# Altium schematic symbol library LT3436.SchLib: 1 symbol
Pins are listed as number, name and electrical type; pins without a type are passive.

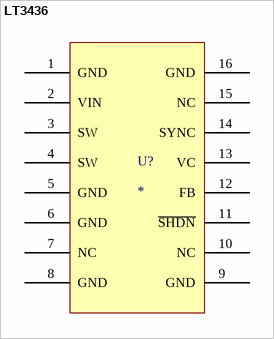
[diagram p0: symbol LT3436]

## LT3436
designator U?
Linear Technology LT3436; Part No.: LT3436EFE; Manufacturer: Linear Technology; Vendor: Linear Technology; Price Est.: $3.93
footprint TSSOP16 EXPOSED PAD (Linear Technology LT3436 - TSSOP 16 Lead Exposed Pad)
pins: 1 GND, 2 VIN, 3 SW, 4 SW, 5 GND, 6 GND, 7 NC, 8 GND, 9 GND, 10 NC, 11 ~{SHDN}, 12 FB, 13 VC, 14 SYNC, 15 NC, 16 GND